# Altium schematic symbol library M20-7910642R.SchLib: 1 symbol
Pins are listed as number, name and electrical type; pins without a type are passive.

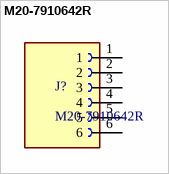
[diagram p0: symbol M20-7910642R]

## M20-7910642R
designator J?
Board Connector, 6 Contact(s), 1 Row(s), Female, Right Angle, 0.1 inch Pitch, Surface Mount Terminal, Locking; Manufacturer: Harwin; Contact Pattern: RECTANGULAR; Contact Resistance: 20mR; Contact Style: SQ PIN-SKT; Durability: 300Cycles; Insertion Force-Max: 1.946N; Insulation Resistance: 1GR; Number Of Connectors: 1; Rated Current (Signal): 3A; Number of Contacts: 6; Withdrawl Force-Min: 0.18904N; Body Breadth: 0.098inch; Body Depth: 0.469inch; Body Length: 0.61inch; Reference Standard: UL; Reliability: COMMERCIAL; Package: None; Price: None; Value: *; MP: M20-7910642R; Availability: Unavailable; Supplier: Digikey; Supplier Part Number: 952-3199-1-ND; Manufacturer Part Number: M20-7910642R; RoHS: Yes; Category: Connectors; Stock: 2216; Pricing: 1=1.51, 10=1.153, 100=0.8868, 500=0.74432 (USD); Mounting Technology: Board; Contact Finish - Mating: NOT SPECIFIED; Contact Finish - Termination: Tin (Sn) - with Nickel (Ni) barrier; Insulation Material: Polymer; Min Operating Temperature: -40°C; Max Operating Temperature: 105°C; Connector Type: BOARD CONNECTOR; JESD-609 Code: e3; Contact Gender: Female; Mounting Style: RIGHT ANGLE; Number Of PCB Rows: 1; Number of Rows Loaded: 1; PCB Contact Pattern: RECTANGULAR; Termination: SMD/SMT; Mating Contact Pitch: 0.1inch; Mounting Option 1: LOCKING; Terminal Pitch: 2.54mm; Reach SVHC Compliant: Yes; RoHS Compliant: Yes; ComponentLink1URL: https://datasheet.ciiva.com:443/pdfs/VipMasterIC/IC/HRWN/HRWN-S-A0002541722/HRWN-S-A0004893744-1.pdf?src-supplier=IHS+Markit; ComponentLink1Description: https://datasheet.ciiva.com:443/pdfs/VipMasterIC/IC/HRWN/HRWN-S-A0002541722/HRWN-S-A0004893744-1.pdf?src-supplier=IHS+Markit; ComponentLink2URL: https://cdn.harwin.com/pdfs/Harwin_PC_Connectors_M20.pdf?src-supplier=Digikey; ComponentLink2Description: https://cdn.harwin.com/pdfs/Harwin_PC_Connectors_M20.pdf?src-supplier=Digikey; ComponentLink3URL: https://cdn.harwin.com/pdfs/C001XX_M20_Series_Connectors.pdf?src-supplier=Digikey; ComponentLink3Description: https://cdn.harwin.com/pdfs/C001XX_M20_Series_Connectors.pdf?src-supplier=Digikey; ComponentLink4URL: https://cdn.harwin.com/pdfs/M20-791R.pdf?src-supplier=Farnell; ComponentLink4Description: https://cdn.harwin.com/pdfs/M20-791R.pdf?src-supplier=Farnell; ComponentLink5URL: https://cdn.harwin.com/pdfs/M20-791R.pdf?src-supplier=Newark; ComponentLink5Description: https://cdn.harwin.com/pdfs/M20-791R.pdf?src-supplier=Newark; Supplier 1: Digikey; Supplier Part Number 1: 952-3199-1-ND
footprint HARWIN_M20-7910642R
pins: 1, 2, 3, 4, 5, 6